# EAGLE library part CC1190 (library texas)
850-950 MHz RF Front End Up to 27 dBm (0.5 W) Output Power
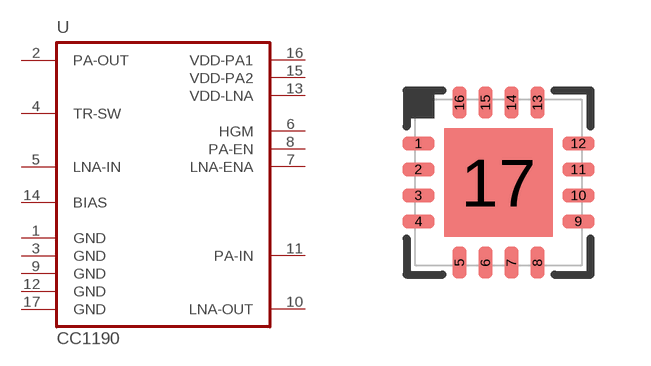
[diagram p39: symbol with the pads of VQFN16; footprint VQFN16]

Designator prefix U

## CC1190  [VQFN16]
1  GND  pwr
2  PA-OUT  pas
3  GND  pwr
4  TR-SW  pas
5  LNA-IN  pas
6  HGM  in
7  LNA-ENA  in
8  PA-EN  in
9  GND  pwr
10  LNA-OUT  pas
11  PA-IN  pas
12  GND  pwr
13  VDD-LNA  pwr
14  BIAS  in
15  VDD-PA2  pwr
16  VDD-PA1  pwr
17  GND  pwr

## Footprint VQFN16 (pad centres in mm)
VQFN 16 RGV (S-PQFP-N16), body 4 x 4 mm, pitch 0.65 mm
smd 0.8 x 0.35: 1 -2,0.975; 2 -2,0.325; 3 -2,-0.325; 4 -2,-0.975; 9 2,-0.975; 10 2,-0.325; 11 2,0.325; 12 2,0.975
smd 0.35 x 0.8: 5 -0.975,-2; 6 -0.325,-2; 7 0.325,-2; 8 0.975,-2; 13 0.975,2; 14 0.325,2; 15 -0.325,2; 16 -0.975,2
smd 2.7 x 2.7: 17 0,0